# Altium schematic symbol library MFRC522.SchLib: 1 symbol
Pins are listed as number, name and electrical type; pins without a type are passive.

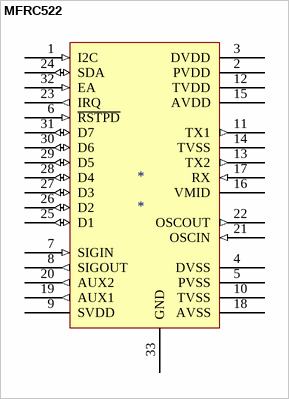
[diagram p0: symbol MFRC522]

## MFRC522
designator *
pins: 1 I2C (in) "I2C使能", 2 PVDD (power) "管脚电源", 3 DVDD (power) "数字电源", 4 DVSS (power) "数字地", 5 PVSS (power) "管脚地", 6 ~{RSTPD} (in) "复位", 7 SIGIN (in) "MIFARE输入", 8 SIGOUT (out) "MIFARE输出", 9 SVDD (power) "7，8管脚电源", 10 TVSS (power) "发射地", 11 TX1 (out) "发射1", 12 TVDD (power) "发射电源", 13 TX2 (out) "发射2", 14 TVSS (power) "发射地", 15 AVDD (power) "模拟电源", 16 VMID (power) "内部参考电压", 17 RX (in) "接收", 18 AVSS (power) "模拟地", 19 AUX1 (out) "测试用途", 20 AUX2 (out) "测试用途", 21 OSCIN (in) "晶振输入", 22 OSCOUT (out) "晶振输出", 23 IRQ (out) "中断请求", 24 SDA (io) "串行数据线", 25 D1 (io) "不同接口的数据线", 26 D2 (io) "不同接口的数据线", 27 D3 (io) "不同接口的数据线", 28 D4 (io) "不同接口的数据线", 29 D5 (io) "不同接口的数据线", 30 D6 (io) "不同接口的数据线", 31 D7 (io) "不同接口的数据线", 32 EA (in) "外部地址：选择I2C的地址", 33 GND (power) "地、散热盘"